# EAGLE library part SAM3U4C (library borkedlabs-micros)
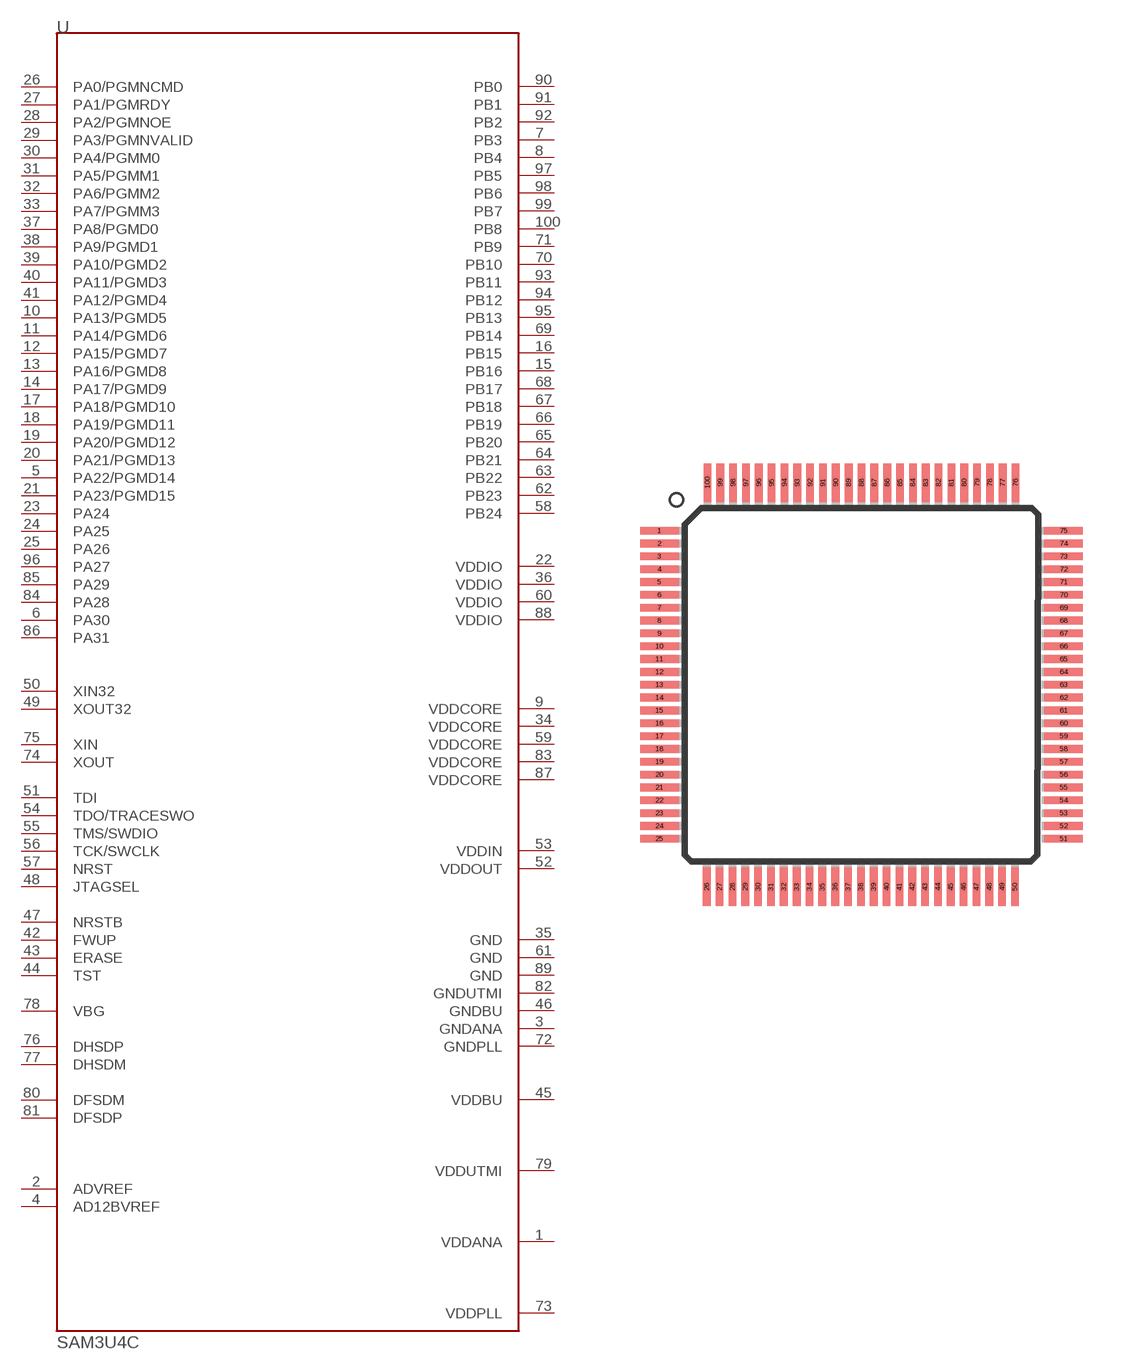
[diagram p3: symbol with the pads of LQFP100; footprint LQFP100]

Designator prefix U

## SAM3U4C  [LQFP100]
1  VDDANA
2  ADVREF
3  GNDANA
4  AD12BVREF
5  PA22/PGMD14
6  PA30
7  PB3
8  PB4
9  VDDCORE
10  PA13/PGMD5
11  PA14/PGMD6
12  PA15/PGMD7
13  PA16/PGMD8
14  PA17/PGMD9
15  PB16
16  PB15
17  PA18/PGMD10
18  PA19/PGMD11
19  PA20/PGMD12
20  PA21/PGMD13
21  PA23/PGMD15
22  VDDIO
23  PA24
24  PA25
25  PA26
26  PA0/PGMNCMD
27  PA1/PGMRDY
28  PA2/PGMNOE
29  PA3/PGMNVALID
30  PA4/PGMM0
31  PA5/PGMM1
32  PA6/PGMM2
33  PA7/PGMM3
34  VDDCORE
35  GND
36  VDDIO
37  PA8/PGMD0
38  PA9/PGMD1
39  PA10/PGMD2
40  PA11/PGMD3
41  PA12/PGMD4
42  FWUP
43  ERASE
44  TST
45  VDDBU
46  GNDBU
47  NRSTB
48  JTAGSEL
49  XOUT32
50  XIN32
51  TDI
52  VDDOUT
53  VDDIN
54  TDO/TRACESWO
55  TMS/SWDIO
56  TCK/SWCLK
57  NRST
58  PB24
59  VDDCORE
60  VDDIO
61  GND
62  PB23
63  PB22
64  PB21
65  PB20
66  PB19
67  PB18
68  PB17
69  PB14
70  PB10
71  PB9
72  GNDPLL
73  VDDPLL
74  XOUT
75  XIN
76  DHSDP
77  DHSDM
78  VBG
79  VDDUTMI
80  DFSDM
81  DFSDP
82  GNDUTMI
83  VDDCORE
84  PA28
85  PA29
86  PA31
87  VDDCORE
88  VDDIO
89  GND
90  PB0
91  PB1
92  PB2
93  PB11
94  PB12
95  PB13
96  PA27
97  PB5
98  PB6
99  PB7
100  PB8

## Footprint LQFP100 (pad centres in mm)
LQFP 100 Source: 6120s.pdf
smd 1.5 x 0.3: 1 -7.875,6; 2 -7.875,5.5; 3 -7.875,5; 4 -7.875,4.5; 5 -7.875,4; 6 -7.875,3.5; 7 -7.875,3; 8 -7.875,2.5; 9 -7.875,2; 10 -7.875,1.5; 11 -7.875,1; 12 -7.875,0.5; 13 -7.875,0; 14 -7.875,-0.5; 15 -7.875,-1; 16 -7.875,-1.5; 17 -7.875,-2; 18 -7.875,-2.5; 19 -7.875,-3; 20 -7.875,-3.5; 21 -7.875,-4; 22 -7.875,-4.5; 23 -7.875,-5; 24 -7.875,-5.5; 25 -7.875,-6; 51 7.875,-6; 52 7.875,-5.5; 53 7.875,-5; 54 7.875,-4.5; 55 7.875,-4; 56 7.875,-3.5; 57 7.875,-3; 58 7.875,-2.5; 59 7.875,-2; 60 7.875,-1.5; 61 7.875,-1; 62 7.875,-0.5; 63 7.875,0; 64 7.875,0.5; 65 7.875,1; 66 7.875,1.5; 67 7.875,2; 68 7.875,2.5; 69 7.875,3; 70 7.875,3.5; 71 7.875,4; 72 7.875,4.5; 73 7.875,5; 74 7.875,5.5; 75 7.875,6
smd 0.3 x 1.5: 26 -6.025,-7.875; 27 -5.525,-7.875; 28 -5.025,-7.875; 29 -4.525,-7.875; 30 -4.025,-7.875; 31 -3.525,-7.875; 32 -3.025,-7.875; 33 -2.525,-7.875; 34 -2.025,-7.875; 35 -1.525,-7.875; 36 -1.025,-7.875; 37 -0.525,-7.875; 38 -0.025,-7.875; 39 0.475,-7.875; 40 0.975,-7.875; 41 1.475,-7.875; 42 1.975,-7.875; 43 2.475,-7.875; 44 2.975,-7.875; 45 3.475,-7.875; 46 3.975,-7.875; 47 4.475,-7.875; 48 4.975,-7.875; 49 5.475,-7.875; 50 5.975,-7.875; 76 6,7.875; 77 5.5,7.875; 78 5,7.875; 79 4.5,7.875; 80 4,7.875; 81 3.5,7.875; 82 3,7.875; 83 2.5,7.875; 84 2,7.875; 85 1.5,7.875; 86 1,7.875; 87 0.5,7.875; 88 0,7.875; 89 -0.5,7.875; 90 -1,7.875; 91 -1.5,7.875; 92 -2,7.875; 93 -2.5,7.875; 94 -3,7.875; 95 -3.5,7.875; 96 -4,7.875; 97 -4.5,7.875; 98 -5,7.875; 99 -5.5,7.875; 100 -6,7.875